# EAGLE library part 2420-09? (library con-wieson-2420)
2.0mm 2420-09 - 9 pin Source: http://www.jm.pl/karty/2420-XXXT1X-C.pdf
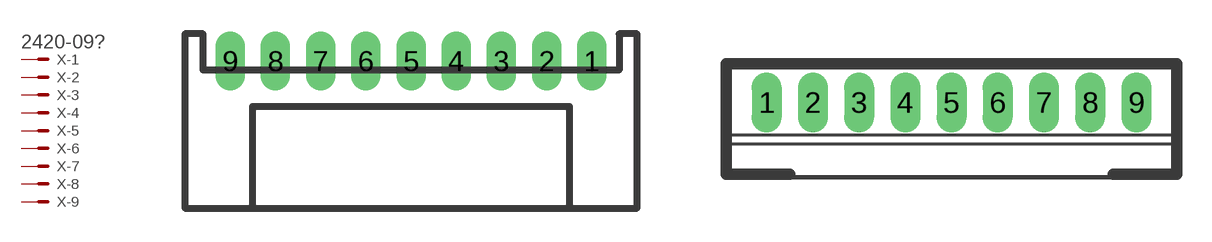
[diagram p8: symbol with the pads of 2420-09R; footprints 2420-09R, 2420-09S]

Designator prefix X; gates -1=MV -2=M -3=M -4=M -5=M -6=M -7=M -8=M -9=M

## 2420-09R  [2420-09R]
1  -1:>NAME$
2  -2:>NAME$
3  -3:>NAME$
4  -4:>NAME$
5  -5:>NAME$
6  -6:>NAME$
7  -7:>NAME$
8  -8:>NAME$
9  -9:>NAME$

## 2420-09S  [2420-09S]
Pads as for 2420-09R

## Footprint 2420-09R (pad centres in mm)
2.0mm right angle 2420-09 - 9 pin Source: http://www.jm.pl/karty/2420-XXXT1X-C.pdf
drill 0.8 long: 1 8,0; 2 6,0; 3 4,0; 4 2,0; 5 0,0; 6 -2,0; 7 -4,0; 8 -6,0; 9 -8,0

## Footprint 2420-09S (pad centres in mm)
2.0mm straight 2420-09 - 9 pin Source: http://www.jm.pl/karty/2420-XXXT1X-C.pdf
drill 0.8 long: 1 -8,0; 2 -6,0; 3 -4,0; 4 -2,0; 5 0,0; 6 2,0; 7 4,0; 8 6,0; 9 8,0